# Altium integrated library TM4c123gh6pm.IntLib: 1 symbol
Pins are listed as number, name and electrical type; pins without a type are passive.

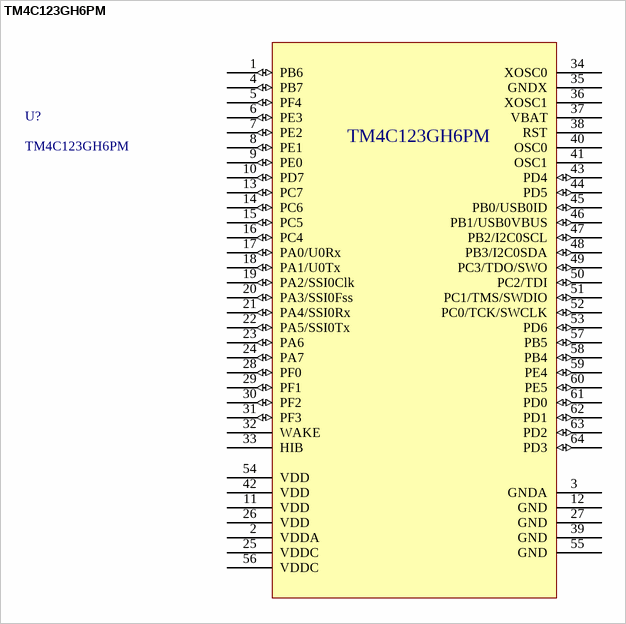
[diagram p0: symbol TM4C123GH6PM]

## TM4C123GH6PM
designator U?
footprint 64A_L (64-Pin Thin Quad Flat Pack 0.8 mm Pitch, IPC High Density)
signal-integrity model Model Name (Model Description)
footprint PM64-L
pins: 1 PB6 (io), 2 VDDA (power), 3 GNDA, 4 PB7 (io), 5 PF4 (io), 6 PE3 (io), 7 PE2 (io), 8 PE1 (io), 9 PE0 (io), 10 PD7 (io), 11 VDD (power), 12 GND, 13 PC7 (io), 14 PC6 (io), 15 PC5 (io), 16 PC4 (io), 17 PA0/U0Rx (io), 18 PA1/U0Tx (io), 19 PA2/SSI0Clk (io), 20 PA3/SSI0Fss (io), 21 PA4/SSI0Rx (io), 22 PA5/SSI0Tx (io), 23 PA6 (io), 24 PA7 (io), 25 VDDC (power), 26 VDD (power), 27 GND, 28 PF0 (io), 29 PF1 (io), 30 PF2 (io), 31 PF3 (io), 32 WAKE (power), 33 HIB, 34 XOSC0, 35 GNDX, 36 XOSC1, 37 VBAT, 38 RST, 39 GND, 40 OSC0, 41 OSC1, 42 VDD (power), 43 PD4 (io), 44 PD5 (io), 45 PB0/USB0ID (io), 46 PB1/USB0VBUS (io), 47 PB2/I2C0SCL (io), 48 PB3/I2C0SDA (io), 49 PC3/TDO/SWO (io), 50 PC2/TDI (io), 51 PC1/TMS/SWDIO (io), 52 PC0/TCK/SWCLK (io), 53 PD6 (io), 54 VDD (power), 55 GND, 56 VDDC (power), 57 PB5 (io), 58 PB4 (io), 59 PE4 (io), 60 PE5 (io), 61 PD0 (io), 62 PD1 (io), 63 PD2 (io), 64 PD3 (io)